# Altium schematic symbol library DHT11.SchLib: 2 symbols
Pins are listed as number, name and electrical type; pins without a type are passive.

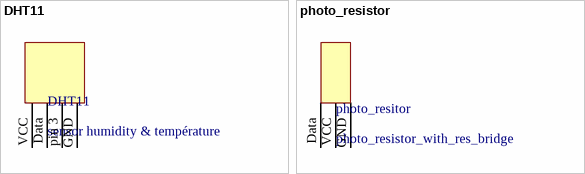
[diagram p0: symbols DHT11 to photo_resistor]

## DHT11
designator DHT11, comment sensor humidity & température
footprint DHT11 (humidity & temperature sensor)
pins: Data data, GND, pin 3 4, VCC vcc

## photo_resistor
designator photo_resitor, comment photo_resistor_with_res_bridge
footprint photo_resitor (photo resistance with resistor)
pins: Data data, GND gnd, VCC data